# Altium schematic symbol library PIC18F24Q10T.Schlib: 1 symbol
Pins are listed as number, name and electrical type; pins without a type are passive.

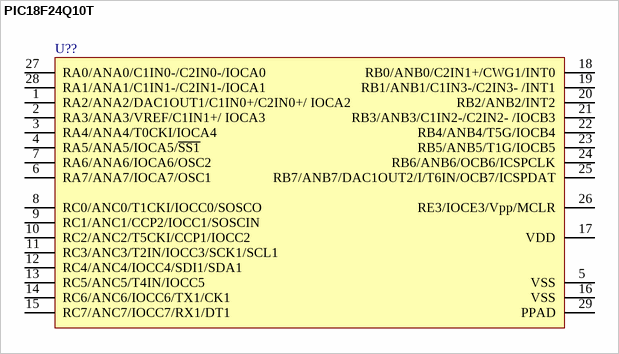
[diagram p0: symbol PIC18F24Q10T]

## PIC18F24Q10T
designator U??
pins: 1 RA2/ANA2/DAC1OUT1/C1IN0+/C2IN0+/ IOCA2, 2 RA3/ANA3/VREF/C1IN1+/ IOCA3, 3 RA4/ANA4/T0CKI/IOCA4, 4 RA5/ANA5/IOCA5/~{SS1} (power), 5 VSS (power), 6 RA7/ANA7/IOCA7/OSC1, 7 RA6/ANA6/IOCA6/OSC2, 8 RC0/ANC0/T1CKI/IOCC0/SOSCO, 9 RC1/ANC1/CCP2/IOCC1/SOSCIN, 10 RC2/ANC2/T5CKI/CCP1/IOCC2, 11 RC3/ANC3/T2IN/IOCC3/SCK1/SCL1, 12 RC4/ANC4/IOCC4/SDI1/SDA1, 13 RC5/ANC5/T4IN/IOCC5, 14 RC6/ANC6/IOCC6/TX1/CK1, 15 RC7/ANC7/IOCC7/RX1/DT1, 16 VSS, 17 VDD, 18 RB0/ANB0/C2IN1+/CWG1/INT0, 19 RB1/ANB1/C1IN3-/C2IN3- /INT1, 20 RB2/ANB2/INT2, 21 RB3/ANB3/C1IN2-/C2IN2- /IOCB3, 22 RB4/ANB4/T5G/IOCB4, 23 RB5/ANB5/T1G/IOCB5, 24 RB6/ANB6/OCB6/ICSPCLK, 25 RB7/ANB7/DAC1OUT2/I/T6IN/OCB7/ICSPDAT, 26 RE3/IOCE3/Vpp/MCLR, 27 RA0/ANA0/C1IN0-/C2IN0-/IOCA0, 28 RA1/ANA1/C1IN1-/C2IN1-/IOCA1, 29 PPAD (power)